# Altium footprint library Interface.PcbLib: 6 footprints
Each footprint in its own frame and in the unit in brackets; x right, y up, seen from the top. Pads: shape width x height; smd on the part's side, far side on the other; paste and mask are expansions set on the pad; w line width, h text height; cw(c..) or ccw(c..) is an arc to the next point about the centre after c.
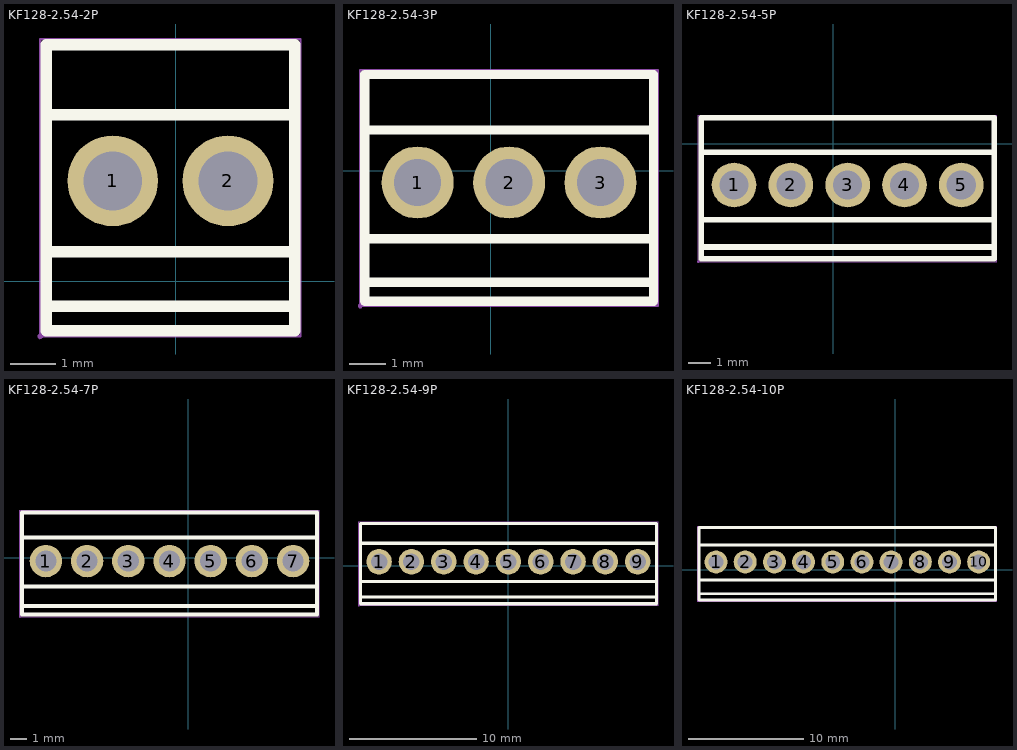
[diagram p0: the footprints below, top view; thin cyan lines are the x and y axes]

## KF128-2.54-2P [mm]
pads (2):
  round 2 hole 1.3: 1(-1.391,2.217) 2(1.149,2.217)
Top Overlay:
  lines w0.254: -2.861,-0.553 2.619,-0.553 ; -2.861,0.655 2.619,0.655 ; -2.861,3.675 2.619,3.675 ; -2.861,-1.083 -2.861,5.217 2.619,5.217 2.619,-1.083 -2.861,-1.083
Mechanical 15:
  region: -0.841,2.217 -0.841,2.326 -0.925,2.529 -1.08,2.683 -1.282,2.767 -1.5,2.767 -1.703,2.683 -1.857,2.528 -1.941,2.326 -1.941,2.217 -1.941,2.108 -1.857,1.905 -1.703,1.751 -1.5,1.667 -1.282,1.667 -1.079,1.751 -0.925,1.905 -0.841,2.108 -0.841,2.217
  region: 1.699,2.217 1.699,2.326 1.615,2.529 1.46,2.683 1.258,2.767 1.04,2.767 0.837,2.683 0.683,2.528 0.599,2.326 0.599,2.217 0.599,2.108 0.683,1.905 0.837,1.751 1.04,1.667 1.258,1.667 1.461,1.751 1.615,1.905 1.699,2.108 1.699,2.217
  region: -2.928,-1.21 -2.928,-1.185 -2.963,-1.15 -3.013,-1.15 -3.048,-1.185 -3.048,-1.21 -3.048,-1.235 -3.013,-1.27 -2.963,-1.27 -2.928,-1.235 -2.928,-1.21
  lines w0.051: -2.988,-1.21 2.746,-1.21 2.746,5.344 -2.988,5.344 -2.988,-1.21

## KF128-2.54-3P [mm]
pads (3):
  round 2 hole 1.3: 1(-2.026,-0.323) 2(0.514,-0.323) 3(3.054,-0.323)
Top Overlay:
  lines w0.254: -3.496,-3.093 4.524,-3.093 ; -3.496,-1.885 4.524,-1.885 ; -3.496,1.135 4.524,1.135 ; -3.496,-3.623 4.524,-3.623 4.524,2.677 -3.496,2.677 -3.496,-3.623
Mechanical 15:
  region: -3.563,-3.75 -3.563,-3.725 -3.598,-3.69 -3.648,-3.69 -3.683,-3.725 -3.683,-3.75 -3.683,-3.775 -3.648,-3.81 -3.598,-3.81 -3.563,-3.775 -3.563,-3.75
  region: 3.604,-0.323 3.604,-0.214 3.52,-0.011 3.365,0.143 3.163,0.227 2.945,0.227 2.742,0.143 2.588,-0.012 2.504,-0.214 2.504,-0.323 2.504,-0.432 2.588,-0.635 2.742,-0.789 2.945,-0.873 3.163,-0.873 3.366,-0.789 3.52,-0.635 3.604,-0.432 3.604,-0.323
  region: 1.064,-0.323 1.064,-0.214 0.98,-0.011 0.825,0.143 0.623,0.227 0.405,0.227 0.202,0.143 0.048,-0.012 -0.036,-0.214 -0.036,-0.323 -0.036,-0.432 0.048,-0.635 0.202,-0.789 0.405,-0.873 0.623,-0.873 0.826,-0.789 0.98,-0.635 1.064,-0.432 1.064,-0.323
  region: -1.476,-0.323 -1.476,-0.214 -1.56,-0.011 -1.715,0.143 -1.917,0.227 -2.135,0.227 -2.338,0.143 -2.492,-0.012 -2.576,-0.214 -2.576,-0.323 -2.576,-0.432 -2.492,-0.635 -2.338,-0.789 -2.135,-0.873 -1.917,-0.873 -1.714,-0.789 -1.56,-0.635 -1.476,-0.432 -1.476,-0.323
  lines w0.051: -3.623,-3.75 -3.623,2.804 4.651,2.804 4.651,-3.75 -3.623,-3.75

## KF128-2.54-5P [mm]
pads (5):
  round 2 hole 1.3: 1(-4.439,-1.847) 2(-1.899,-1.847) 3(0.641,-1.847) 4(3.181,-1.847) 5(5.721,-1.847)
Top Overlay:
  lines w0.254: -5.909,-4.617 7.191,-4.617 ; -5.909,-3.409 7.191,-3.409 ; -5.909,-0.389 7.191,-0.389 ; -5.909,-5.147 -5.909,1.153 7.191,1.153 7.191,-5.147 -5.909,-5.147
Mechanical 15:
  region: -3.889,-1.847 -3.889,-1.738 -3.973,-1.535 -4.128,-1.381 -4.33,-1.297 -4.548,-1.297 -4.751,-1.381 -4.905,-1.536 -4.989,-1.738 -4.989,-1.847 -4.989,-1.956 -4.905,-2.159 -4.751,-2.313 -4.548,-2.397 -4.33,-2.397 -4.127,-2.313 -3.973,-2.159 -3.889,-1.956 -3.889,-1.847
  region: -1.349,-1.847 -1.349,-1.738 -1.433,-1.535 -1.588,-1.381 -1.79,-1.297 -2.008,-1.297 -2.211,-1.381 -2.365,-1.536 -2.449,-1.738 -2.449,-1.847 -2.449,-1.956 -2.365,-2.159 -2.211,-2.313 -2.008,-2.397 -1.79,-2.397 -1.587,-2.313 -1.433,-2.159 -1.349,-1.956 -1.349,-1.847
  region: 1.191,-1.847 1.191,-1.738 1.107,-1.535 0.952,-1.381 0.75,-1.297 0.532,-1.297 0.329,-1.381 0.175,-1.536 0.091,-1.738 0.091,-1.847 0.091,-1.956 0.175,-2.159 0.329,-2.313 0.532,-2.397 0.75,-2.397 0.953,-2.313 1.107,-2.159 1.191,-1.956 1.191,-1.847
  region: 3.731,-1.847 3.731,-1.738 3.647,-1.535 3.492,-1.381 3.29,-1.297 3.072,-1.297 2.869,-1.381 2.715,-1.536 2.631,-1.738 2.631,-1.847 2.631,-1.956 2.715,-2.159 2.869,-2.313 3.072,-2.397 3.29,-2.397 3.493,-2.313 3.647,-2.159 3.731,-1.956 3.731,-1.847
  region: 6.271,-1.847 6.271,-1.738 6.187,-1.535 6.032,-1.381 5.83,-1.297 5.612,-1.297 5.409,-1.381 5.255,-1.536 5.171,-1.738 5.171,-1.847 5.171,-1.956 5.255,-2.159 5.409,-2.313 5.612,-2.397 5.83,-2.397 6.033,-2.313 6.187,-2.159 6.271,-1.956 6.271,-1.847
  region: -5.976,-5.274 -5.976,-5.249 -6.011,-5.214 -6.061,-5.214 -6.096,-5.249 -6.096,-5.274 -6.096,-5.299 -6.061,-5.334 -6.011,-5.334 -5.976,-5.299 -5.976,-5.274
  lines w0.051: -6.036,-5.274 7.318,-5.274 7.318,1.28 -6.036,1.28 -6.036,-5.274

## KF128-2.54-7P [mm]
pads (7):
  round 2 hole 1.3: 1(-8.769,-0.205) 2(-6.229,-0.205) 3(-3.689,-0.205) 4(-1.149,-0.205) 5(1.391,-0.205) 6(3.931,-0.205) 7(6.471,-0.205)
Top Overlay:
  lines w0.254: -10.239,-2.975 7.941,-2.975 ; -10.239,-1.767 7.941,-1.767 ; -10.239,1.253 7.941,1.253 ; -10.239,-3.505 -10.239,2.795 7.941,2.795 7.941,-3.505 -10.239,-3.505
Mechanical 15:
  drawing of 12 lines, arcs and shapes, not listed

## KF128-2.54-9P [mm]
pads (9):
  round 2 hole 1.3: 1(-10.154,0.312) 2(-7.614,0.312) 3(-5.074,0.312) 4(-2.534,0.312) 5(0.006,0.312) 6(2.546,0.312) 7(5.086,0.312) 8(7.626,0.312) 9(10.166,0.312)
Top Overlay:
  lines w0.254: -11.624,-2.458 11.636,-2.458 ; -11.624,-1.25 11.636,-1.25 ; -11.624,1.77 11.636,1.77 ; -11.624,-2.988 11.636,-2.988 11.636,3.312 -11.624,3.312 -11.624,-2.988
Mechanical 15:
  drawing of 14 lines, arcs and shapes, not listed

## KF128-2.54-10P [mm]
pads (10):
  round 2 hole 1.3: 1(-15.615,0.693) 2(-13.075,0.693) 3(-10.535,0.693) 4(-7.995,0.693) 5(-5.455,0.693) 6(-2.915,0.693) 7(-0.375,0.693) 8(2.165,0.693) 9(4.705,0.693) 10(7.245,0.693)
Top Overlay:
  lines w0.254: -17.085,-2.077 8.715,-2.077 ; -17.085,-0.869 8.715,-0.869 ; -17.085,2.151 8.715,2.151 ; -17.085,-2.607 8.715,-2.607 8.715,3.693 -17.085,3.693 -17.085,-2.607
Mechanical 15:
  drawing of 15 lines, arcs and shapes, not listed